# EAGLE library part TPIC6A596DW (library tpic)
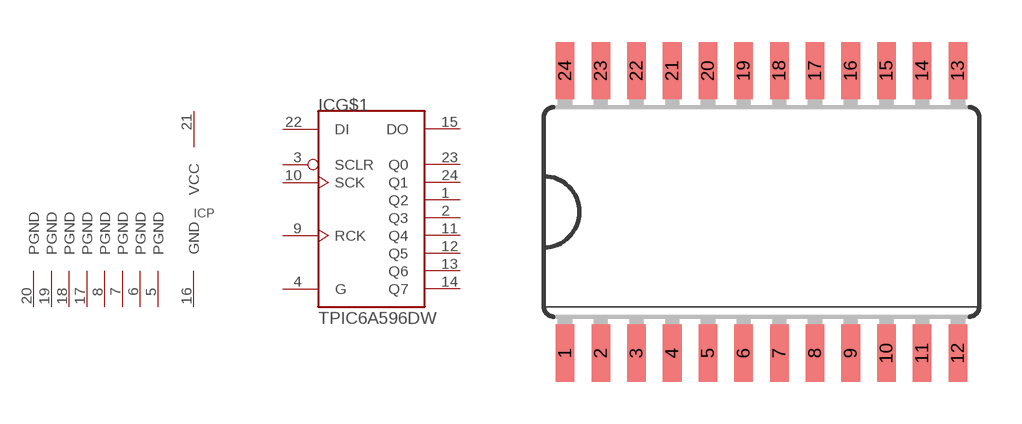
[diagram p2: symbol with the pads of SO24W; footprint SO24W]

Designator prefix IC; gates G$1=595-596 P=VCC-GND-A

## TPIC6A596DW  [SO24W]
1  G$1:Q2  oc
2  G$1:Q3  oc
3  G$1:SCLR  in
4  G$1:G  in
5  P:PGND  pwr
6  P:PGND  pwr
7  P:PGND  pwr
8  P:PGND  pwr
9  G$1:RCK  in
10  G$1:SCK  in
11  G$1:Q4  oc
12  G$1:Q5  oc
13  G$1:Q6  oc
14  G$1:Q7  oc
15  G$1:DO  out
16  P:GND  pwr
17  P:PGND  pwr
18  P:PGND  pwr
19  P:PGND  pwr
20  P:PGND  pwr
21  P:VCC  pwr
22  G$1:DI  in
23  G$1:Q0  oc
24  G$1:Q1  oc

## Footprint SO24W (pad centres in mm)
Wide Small Outline package 300 mil
smd 0.66 x 2.032: 1 -6.985,-5.029; 2 -5.715,-5.029; 3 -4.445,-5.029; 4 -3.175,-5.029; 5 -1.905,-5.029; 6 -0.635,-5.029; 7 0.635,-5.029; 8 1.905,-5.029; 9 3.175,-5.029; 10 4.445,-5.029; 11 5.715,-5.029; 12 6.985,-5.029; 13 6.985,5.029; 14 5.715,5.029; 15 4.445,5.029; 16 3.175,5.029; 17 1.905,5.029; 18 0.635,5.029; 19 -0.635,5.029; 20 -1.905,5.029; 21 -3.175,5.029; 22 -4.445,5.029; 23 -5.715,5.029; 24 -6.985,5.029